# Altium footprint library SOD.PCBLIB: 8 footprints
Each footprint in its own frame and in the unit in brackets; x right, y up, seen from the top. Pads: shape width x height; smd on the part's side, far side on the other; paste and mask are expansions set on the pad; w line width, h text height; cw(c..) or ccw(c..) is an arc to the next point about the centre after c.
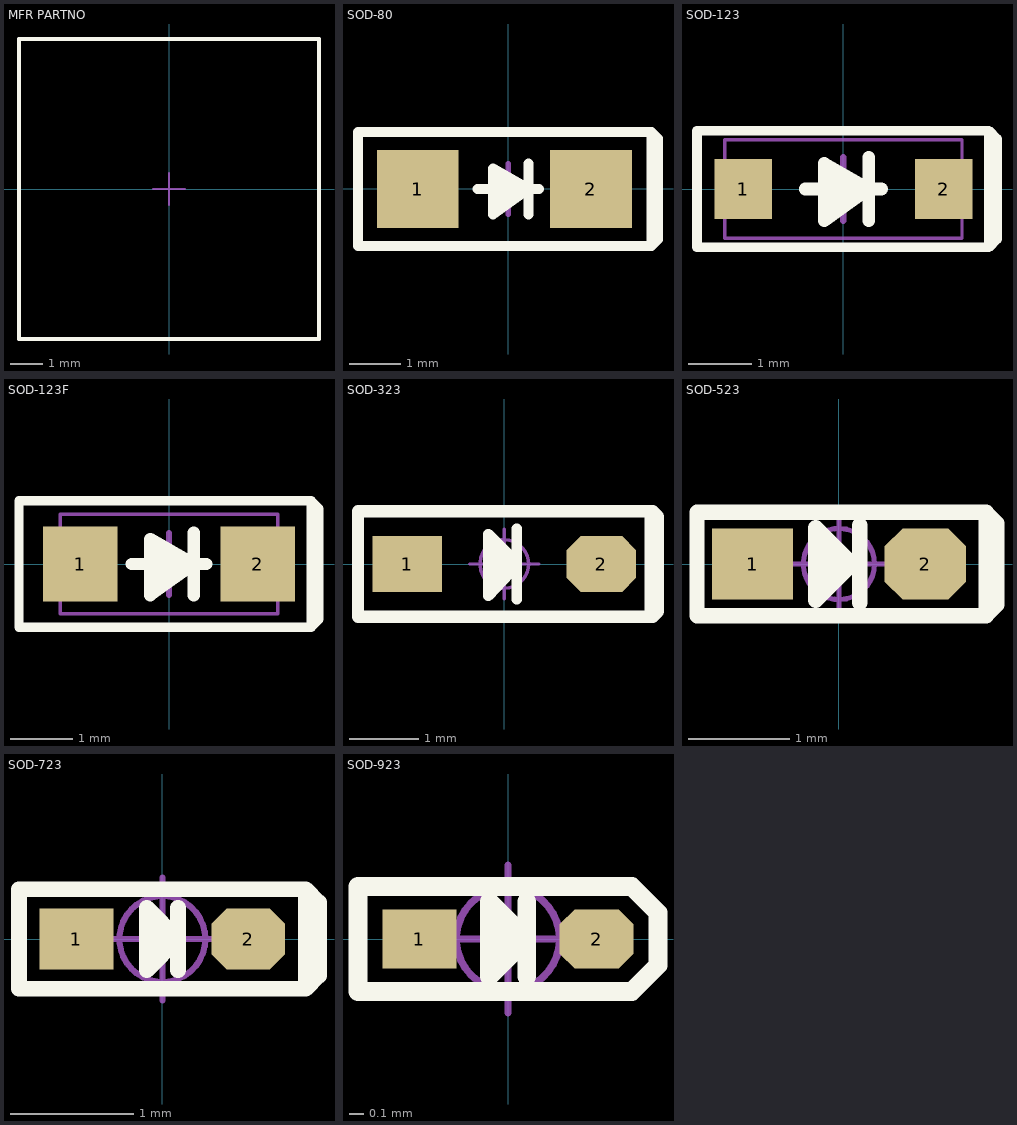
[diagram p0: the footprints below, top view; thin cyan lines are the x and y axes]

## MFR PARTNO [mm] "记得设置高度"
Top Overlay:
  lines w0.127: -4.7,-4.7 4.7,-4.7 4.7,4.7 -4.7,4.7 -4.7,-4.7
Top 元件外形:
  lines w0.127: -4.7,-4.7 -4.7,4.7 4.7,4.7 4.7,-4.7 -4.7,-4.7
Top 中心点:
  lines w0.051: -0.5,0 0.5,0 ; 0,-0.5 0,0.5

## SOD-80 [mil] "SOD-80"
pads (2):
  rect 62.99x60 smd: 1(-70,0) 2(63.86,0)
Top Overlay:
  region: 15.75,0 8.35,7.4 6.37,9.38 1.7,12.5 -3.49,14.65 -9,15.75 -11.81,15.75
  region: 15.75,0 -11.81,15.75 -11.81,-19.68
  lines w5.91: 110.61,0.5 115.61,0.5
  lines w7.87: -116,-44 110.61,-44 115.61,-39 115.61,39 110.61,44 ; -116,-42 -116,44 110.61,44 ; -23.62,0 -11.81,0 ; 15.75,-19.68 15.75,19.68 ; 23.62,0 15.75,0 ; 110.61,-43 110.61,44 ; 15.75,0 -11.81,15.75 -11.81,-19.68 15.75,0
Top 中心点:
  lines w3.94: -19.69,0 19.68,0 ; 0,-19.68 0,19.68
3D body "SOD-80.STEP": height 59.06, standoff 0, extent -68.9,-29.53 68.9,29.53

## SOD-123 [mm]
pads (2):
  rect 0.9x0.95 smd: 1(-1.575,0) 2(1.575,0)
Top Overlay:
  region: 0.4,0 -0.3,0.4 -0.3,-0.5
  lines w0.15: 2.286,-0.916 2.413,-0.789 2.413,-0.254 2.413,0.789 2.286,0.916 ; 2.286,-0.916 2.286,-0.254 2.286,0.916 ; 2.286,-0.916 -2.3,-0.916 -2.3,0.916 2.286,0.916
  lines w0.2: -0.6,0 -0.3,0 ; 0.4,-0.5 0.4,0.5 ; 0.6,0 0.4,0 ; 0.4,0 -0.3,-0.5 -0.3,0.4 0.4,0
Top 元件外形:
  lines w0.05: -1.864,-0.775 -1.864,0.775 1.864,0.775 1.864,-0.775 -1.864,-0.775
Top 中心点:
  lines w0.1: -0.5,0 0.5,0 ; 0,-0.5 0,0.5
3D body "SOD-123.STEP": height 1.35, standoff 0, extent -1.864,-0.775 1.864,0.775

## SOD-123F [mm]
pads (2):
  rect 1.2x1.2 smd: 1(-1.43,0) 2(1.43,0)
Top Overlay:
  region: 0.4,0 -0.3,0.4 -0.3,-0.5
  lines w0.15: -2.413,-0.675 -2.413,-1.016 ; -2.413,-1.016 2.286,-1.016 ; -2.413,-1.016 -2.413,1.016 2.286,1.016 ; 2.286,-1.016 2.286,-0.254 ; 2.286,-1.016 2.413,-0.889 2.413,-0.254 ; 2.286,-0.254 2.413,-0.254 ; 2.286,-0.254 2.286,1.016 ; 2.286,-0.254 2.413,-0.254 ; 2.286,1.016 2.413,0.889 2.413,-0.254
  lines w0.2: -0.6,0 -0.3,0 ; 0.4,-0.5 0.4,0.5 ; 0.6,0 0.4,0 ; 0.4,0 -0.3,0.4 -0.3,-0.5 0.4,0
Top 元件外形:
  lines w0.05: -1.75,-0.8 -1.75,0.8 1.75,0.8 1.75,-0.8 -1.75,-0.8
Top 中心点:
  lines w0.1: -0.5,0 0.5,0 ; 0,-0.5 0,0.5
3D body "SOD123F.STEP": height 1.1, standoff 0, extent -1.75,-0.8 1.75,0.8

## SOD-323 [mm] "1.8x1.3X0.9mm（长宽高，不包括引脚）联系卖家 免费查找封装"
pads (2):
  rect 1x0.8 smd: 1(-1.4,0)
  oct 1x0.8 smd: 2(1.4,0)
Top Overlay:
  lines w0.152: 0.178,-0.508 0.178,0.508 ; 0.178,-0.025 -0.229,-0.457 -0.229,0.432 0.178,0.025
  lines w0.178: 2.108,-0.686 2.108,0.686 ; 2.108,0 2.216,0 ; -2.108,-0.762 0.864,-0.762 2.14,-0.762 2.216,-0.686 2.216,0.686 2.14,0.762 0.864,0.762 -2.108,0.762 -2.108,-0.762
  lines w0.254: -0.127,0.254 -0.152,-0.178 0.025,-0.025 -0.025,0.127
Top 中心点:
  circle w0.05: c0,0 r0.35
  lines w0.05: -0.5,0 0.5,0 ; 0,-0.5 0,0.5
3D body "SOD-323.STEP": height 0.95, standoff 0, extent -1.324,-0.65 1.324,0.65

## SOD-523 [mm] "1.2x0.8X0.6mm（长宽高，不包括引脚）"
pads (2):
  rect 0.8x0.7 smd: 1(-0.85,0)
  oct 0.8x0.7 smd: 2(0.85,0)
Top Overlay:
  region: 0.127,0 -0.229,0.356 -0.229,-0.356
  lines w0.152: 0.203,-0.381 0.203,0.381 ; 1.448,-0.508 0.528,-0.508 -1.397,-0.508 -1.397,0.508 0.528,0.508 1.448,0.508 ; 1.448,-0.508 1.448,0.508 ; 1.448,-0.508 1.556,-0.4 1.556,0.4 1.448,0.508 ; -0.229,-0.356 0.127,0 -0.229,0.356 -0.229,-0.356
Top 元件外形:
  circle w0.05: c0,0 r0.35
  lines w0.05: -0.5,0 0.5,0 ; 0,-0.5 0,0.5
3D body "SOD-523.stp": height 0.65, standoff 0.05, extent -0.8,-0.4 0.8,0.4

## SOD-723 [mm] "1x0.6X0.5mm（长宽高，不包括引脚）"
pads (2):
  rect 0.6x0.5 smd: 1(-0.7,0)
  oct 0.6x0.5 smd: 2(0.7,0)
Top Overlay:
  region: 0.127,0 -0.127,0.254 -0.127,-0.254
  lines w0.127: 0,0.127 -0.127,0.254 ; 0.127,-0.254 0.127,0.254 ; -0.127,0.254 -0.127,-0.254 0.127,0 -0.127,0.254 ; 1.168,-0.406 1.168,0.406 ; 1.168,-0.406 0.381,-0.406 -1.168,-0.406 -1.168,0.406 0.381,0.406 1.168,0.406 ; 1.168,-0.406 1.276,-0.299 1.276,0.299 1.168,0.406
Top 中心点:
  circle w0.05: c0,0 r0.35
  lines w0.05: -0.5,0 0.5,0 ; 0,-0.5 0,0.5
3D body "SOD-723.STEP": height 0.55, standoff 0.05, extent -0.7,-0.3 0.7,0.3

## SOD-923 [mm] "0.8x0.6X0.4mm（长宽高，不包括引脚）       淘宝ID:黄晶宝石"
pads (2):
  rect 0.5x0.4 smd: 1(-0.6,0)
  oct 0.5x0.4 smd: 2(0.6,0)
Top Overlay:
  region: 0.127,0 -0.127,0.254 -0.127,-0.254
  lines w0.127: 0,0.127 -0.127,0.254 ; 0.127,-0.254 0.127,0.254 ; -0.127,0.254 0.127,0 -0.127,-0.254 -0.127,0.254 ; -1.016,-0.356 0.381,-0.356 0.838,-0.356 1.016,-0.178 1.016,0.178 0.838,0.356 0.381,0.356 -1.016,0.356 -1.016,-0.356
Top 中心点:
  circle w0.05: c0,0 r0.35
  lines w0.05: -0.5,0 0.5,0 ; 0,-0.5 0,0.5
3D body "SOD-923.STEP": height 0.43, standoff 0.02, extent -0.5,-0.3 0.5,0.3